# EAGLE library part AD7327 (library firefly)
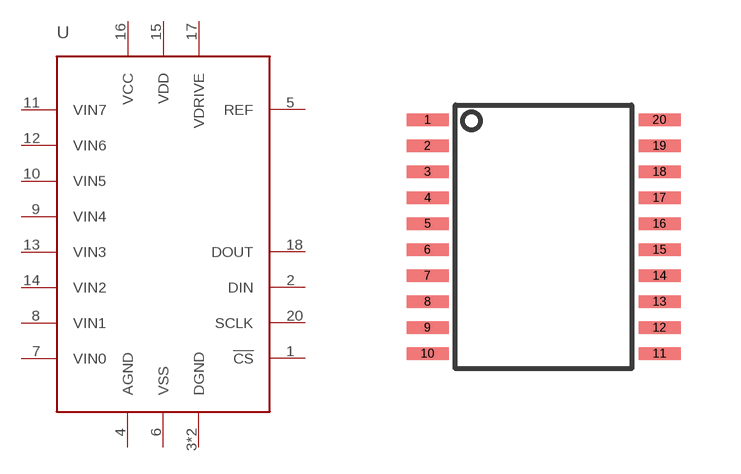
[diagram p39: symbol with the pads of TSSOP-20; footprint TSSOP-20]

Designator prefix -

## AD7327  [TSSOP-20]
1  !CS
2  DIN
3  DGND
4  AGND
5  REF
6  VSS
7  VIN0
8  VIN1
9  VIN4
10  VIN5
11  VIN7
12  VIN6
13  VIN3
14  VIN2
15  VDD
16  VCC
17  VDRIVE
18  DOUT
19  DGND
20  SCLK

## Footprint TSSOP-20 (pad centres in mm)
smd 1.05 x 0.32: 1 -2.9,2.925; 2 -2.9,2.275; 3 -2.9,1.625; 4 -2.9,0.975; 5 -2.9,0.325; 6 -2.9,-0.325; 7 -2.9,-0.975; 8 -2.9,-1.625; 9 -2.9,-2.275; 10 -2.9,-2.925; 11 2.9,-2.925; 12 2.9,-2.275; 13 2.9,-1.625; 14 2.9,-0.975; 15 2.9,-0.325; 16 2.9,0.325; 17 2.9,0.975; 18 2.9,1.625; 19 2.9,2.275; 20 2.9,2.925